# Altium integrated library STM32F407VET6.IntLib: 1 symbol
Pins are listed as number, name and electrical type; pins without a type are passive.

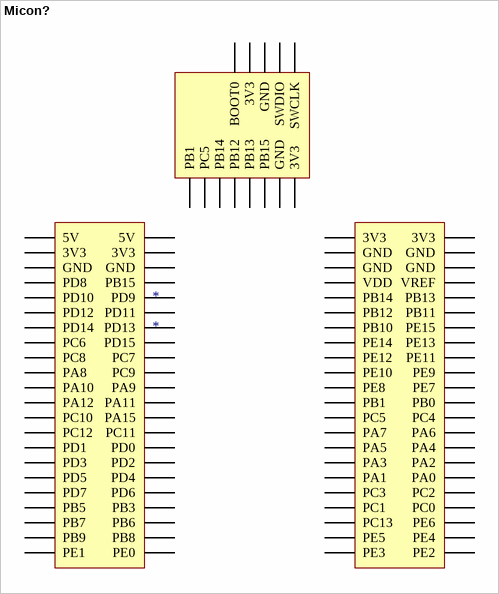
[diagram p0: symbol Micon?]

## Micon?
designator *
STM32F407VET6
footprint MICON (STM32F407VET6)
pins: 3V3, 3V3, 3V3, 3V3, 3V3, 3V3, 5V, 5V, BOOT0, GND, GND, GND, GND, GND, GND, GND, GND, PA0, PA1, PA2, PA3, PA4, PA5, PA6, PA7, PA8, PA9, PA10, PA11, PA12, PA15, PB0, PB1, PB1, PB3, PB5, PB6, PB7, PB8, PB9, PB10, PB11, PB12, PB12, PB13, PB13, PB14, PB14, PB15, PB15, PC0, PC1, PC2, PC3, PC4, PC5, PC5, PC6, PC7, PC8, PC9, PC10, PC11, PC12, PC13, PD0, PD1, PD2, PD3, PD4, PD5, PD6, PD7, PD8, PD9, PD10, PD11, PD12, PD13, PD14, PD15, PE0, PE1, PE2, PE3, PE4, PE5, PE6, PE7, PE8, PE9, PE10, PE11, PE12, PE13, PE14, PE15, SWCLK, SWDIO, VDD, VREF